# EAGLE library part MT29F2G16AADWPD (library memory-micron)
NAND FLASH 2Gb, 3.3V low power/voltage
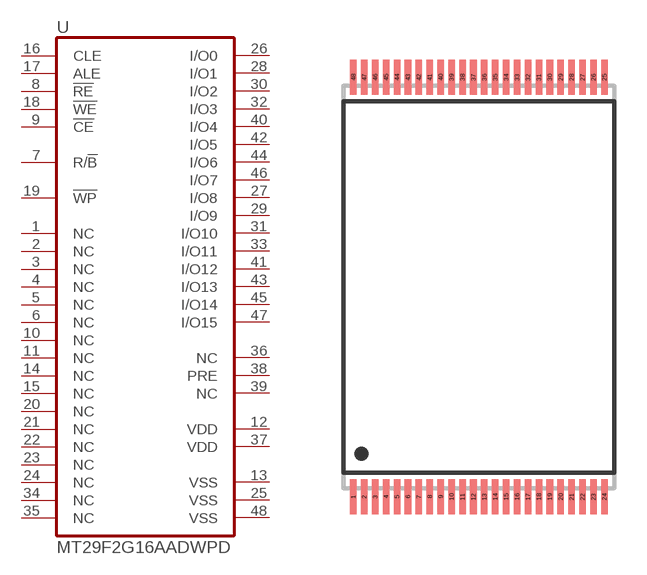
[diagram p1: symbol with the pads of TSOP48; footprint TSOP48]

Designator prefix U

## MT29F2G16AADWPDN  [TSOP48]
1  NC  nc
2  NC  nc
3  NC  nc
4  NC  nc
5  NC  nc
6  NC  nc
7  R/!B!  in
8  !RE!  in
9  !CE!  in
10  NC  nc
11  NC  nc
12  VDD  pwr
13  VSS  pwr
14  NC  nc
15  NC  nc
16  CLE  in
17  ALE  in
18  !WE!  in
19  !WP!  in
20  NC  nc
21  NC  nc
22  NC  nc
23  NC  nc
24  NC  nc
25  VSS  pwr
26  I/O0
27  I/O8
28  I/O1
29  I/O9
30  I/O2
31  I/O10
32  I/O3
33  I/O11
34  NC  nc
35  NC  nc
36  NC  nc
37  VDD  pwr
38  PRE  in
39  NC  nc
40  I/O4
41  I/O12
42  I/O5
43  I/O13
44  I/O6
45  I/O14
46  I/O7
47  I/O15
48  VSS  pwr

## Footprint TSOP48 (pad centres in mm)
48-TSOP, 12 x 20 mm
smd 0.3 x 1.6: 1 -5.75,-9.6; 2 -5.25,-9.6; 3 -4.75,-9.6; 4 -4.25,-9.6; 5 -3.75,-9.6; 6 -3.25,-9.6; 7 -2.75,-9.6; 8 -2.25,-9.6; 9 -1.75,-9.6; 10 -1.25,-9.6; 11 -0.75,-9.6; 12 -0.25,-9.6; 13 0.25,-9.6; 14 0.75,-9.6; 15 1.25,-9.6; 16 1.75,-9.6; 17 2.25,-9.6; 18 2.75,-9.6; 19 3.25,-9.6; 20 3.75,-9.6; 21 4.25,-9.6; 22 4.75,-9.6; 23 5.25,-9.6; 24 5.75,-9.6; 25 5.75,9.6; 26 5.25,9.6; 27 4.75,9.6; 28 4.25,9.6; 29 3.75,9.6; 30 3.25,9.6; 31 2.75,9.6; 32 2.25,9.6; 33 1.75,9.6; 34 1.25,9.6; 35 0.75,9.6; 36 0.25,9.6; 37 -0.25,9.6; 38 -0.75,9.6; 39 -1.25,9.6; 40 -1.75,9.6; 41 -2.25,9.6; 42 -2.75,9.6; 43 -3.25,9.6; 44 -3.75,9.6; 45 -4.25,9.6; 46 -4.75,9.6; 47 -5.25,9.6; 48 -5.75,9.6